# Altium integrated library MIKROE-4159.IntLib: 1 symbol
Pins are listed as number, name and electrical type; pins without a type are passive.

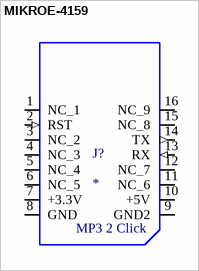
[diagram p0: symbol MIKROE-4159]

## MIKROE-4159
designator J?
KT403A MP3 Player Audio mikroBUSâ„¢ Clickâ„¢ Platform Evaluation Expansion Board; MF: MikroElektronika; Package: None; Purchase-URL: https://pricing.snapeda.com/search/part/MIKROE-4159/?ref=eda; Value: *; Availability: In Stock; SnapEDA_Link: https://www.snapeda.com/parts/MIKROE-4159/MikroElektronika/view-part/?ref=snap; MP: MIKROE-4159; Price: None; Check_prices: https://www.snapeda.com/parts/MIKROE-4159/MikroElektronika/view-part/?ref=eda
footprint MIKROE-4159
pins: 1 NC_1, 2 RST (in), 3 NC_2, 4 NC_3, 5 NC_4, 6 NC_5, 7 +3.3V (power), 8 GND (power), 9 GND2 (power), 10 +5V (power), 11 NC_6, 12 NC_7, 13 RX (in), 14 TX (out), 15 NC_8, 16 NC_9
text: MP3 2 Click